# Altium footprint library Sensors.PcbLib: 5 footprints
Each footprint in its own frame and in the unit in brackets; x right, y up, seen from the top. Pads: shape width x height; smd on the part's side, far side on the other; paste and mask are expansions set on the pad; w line width, h text height; cw(c..) or ccw(c..) is an arc to the next point about the centre after c.
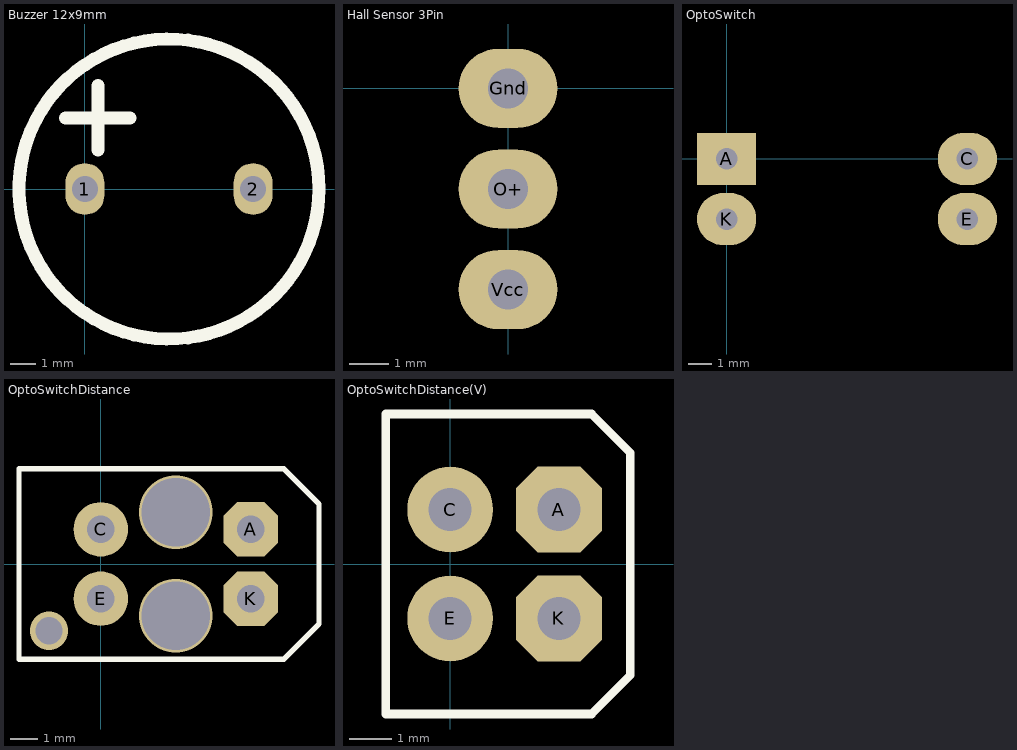
[diagram p0: the footprints below, top view; thin cyan lines are the x and y axes]

## Buzzer 12x9mm [mm]
pads (2):
  oval 1.5x2 hole 1: 1(0,0) 2(6.5,0)
Top Overlay:
  circle w0.5: c3.25,0 r5.8
  lines w0.5: -0.75,2.75 1.75,2.75 ; 0.5,1.5 0.5,4
3D body: height 8.5, standoff -5.5, extent -2.75,-6 9.25,6

## Hall Sensor 3Pin [mm]
pads (3):
  oval 2.5x2 hole 1: Gnd(0,0) O+(0,-2.54) Vcc(0,-5.08)
3D body: height 6, standoff 0, extent -0.5,-6 0.5,1

## OptoSwitch [mm]
pads (4):
  rect 2.5x2.2 hole 0.9: A(0,0)
  oval 2.5x2.2 hole 0.9: C(10.16,0) E(10.16,-2.54) K(0,-2.54)
3D body: height 10, standoff -1, extent -1.925,-4.345 12.075,1.775

## OptoSwitchDistance [mm] "TCRT5000, TCRT5000L"
pads (4):
  oct 2x2 hole 1: A(5.5,1.27) K(5.5,-1.27)
  round 2 hole 1: C(0,1.27) E(0,-1.27)
via 2.75,1.9 diameter 2.7 hole 2.5
via 2.75,-1.9 diameter 2.7 hole 2.5
via -1.9,-2.45 diameter 1.4 hole 1
Top Overlay:
  lines w0.2: -3,-3.5 6.7,-3.5 8,-2.2 8,2.2 6.7,3.5 -3,3.5 -3,-3.5

## OptoSwitchDistance(V) [mm] "TCRT5000, TCRT5000L"
pads (4):
  oct 2x2 hole 1: A(2.54,1.27) K(2.54,-1.27)
  round 2 hole 1: C(0,1.27) E(0,-1.27)
Top Overlay:
  lines w0.2: -1.5,-3.5 3.3,-3.5 4.2,-2.6 4.2,2.6 3.3,3.5 -1.5,3.5 -1.5,-3.5